# Altium footprint library Other.PcbLib: 7 footprints
Each footprint in its own frame and in the unit in brackets; x right, y up, seen from the top. Pads: shape width x height; smd on the part's side, far side on the other; paste and mask are expansions set on the pad; w line width, h text height; cw(c..) or ccw(c..) is an arc to the next point about the centre after c.
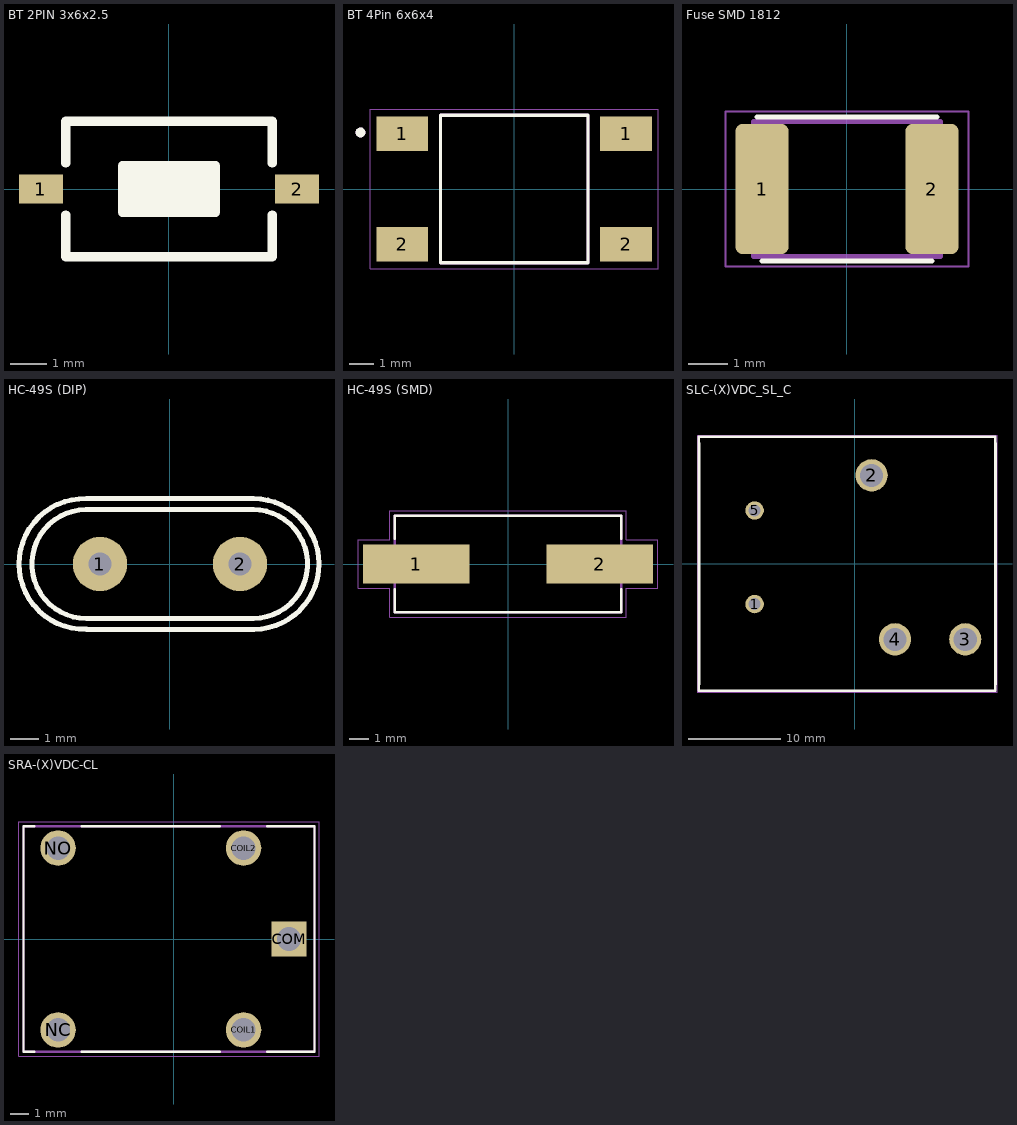
[diagram p0: the footprints below, top view; thin cyan lines are the x and y axes]

## BT 2PIN 3x6x2.5 [mm]
pads (2):
  rect 1.2x0.8 smd: 1(-3.5,0) 2(3.5,0)
Top Overlay:
  rectangle: -1.27,-0.635 1.27,0.635
  lines w0.254: -2.819,-0.711 -2.819,-1.854 2.819,-1.854 2.819,-0.711 ; -2.819,0.711 -2.819,1.854 2.819,1.854 2.819,0.711 ; -1.27,-0.635 -1.27,0.635 1.27,0.635 1.27,-0.635 -1.27,-0.635
3D body "User Library-Button-SMD.step": height 2.5, standoff 0, extent -3.05,-1.85 3.05,1.85

## BT 4Pin 6x6x4 [mm]
pads (4):
  rect 2.1x1.4 smd: 1(-4.55,2.25) 1(4.55,2.25) 2(-4.55,-2.25) 2(4.55,-2.25)
Top Overlay:
  circle w0.2: c-6.25,2.3 r0.1
  lines w0.127: -3,-3 3,-3 3,3 -3,3 -3,-3
Mechanical 13:
  circle w0.2: c-6.25,2.3 r0.1
  lines w0.127: -3,-3 -3,3 3,3 3,-3 -3,-3
Mechanical 15:
  lines w0.05: -5.85,-3.25 -5.85,3.25 5.85,3.25 5.85,-3.25 -5.85,-3.25
3D body "step_temp.STEP": height 4.59, standoff 0, extent -5,-3 5,3

## Fuse SMD 1812 [mm]
pads (2):
  rrect25% 1.34x3.29 smd: 1(-2.15,0) 2(2.15,0)
Top Overlay:
  lines w0.127: -2.28,1.825 2.28,1.825 ; -2.15,-1.825 2.15,-1.825
Mechanical 13:
  lines w0.127: -2.37,-1.71 2.37,-1.71 2.37,1.71 -2.37,1.71 -2.37,-1.71
Mechanical 15:
  lines w0.05: -3.07,-1.96 3.07,-1.96 3.07,1.96 -3.07,1.96 -3.07,-1.96
3D body "step_temp.STEP": height 1.25, standoff 0, extent -2.275,-1.62 2.275,1.62

## HC-49S (DIP) [mm]
pads (2):
  round 1.905 hole 0.8: 1(-2.45,0) 2(2.45,0)
Top Overlay:
  lines w0.178: -2.939,1.905 ccw(c-2.927,0) -2.921,-1.905 2.921,-1.905 ccw(c2.908,0) 2.903,1.905 ; -2.922,-2.283 cw(c-2.998,0.001) -2.921,2.286 2.921,2.286 cw(c2.928,0) 2.943,-2.286 ; -2.921,-2.286 2.921,-2.286 ; -2.921,1.905 2.921,1.905
3D body "SW3dPS-HP49US.STEP": height 3.5, standoff -4, extent -5.675,-2.364 5.675,2.286

## HC-49S (SMD) [mm]
pads (2):
  rect 5.5x2 smd: 1(-4.75,0) 2(4.75,0)
Top Overlay:
  lines w0.127: -5.85,-1.315 -5.85,-2.5 5.85,-2.5 5.85,-1.315 ; -5.85,1.315 -5.85,2.5 5.85,2.5 5.85,1.315
Mechanical 13:
  lines w0.127: -5.85,-2.5 5.85,-2.5 5.85,2.5 -5.85,2.5 -5.85,-2.5
Mechanical 15:
  lines w0.05: -7.75,-1.25 -7.75,1.25 -6.1,1.25 -6.1,2.75 6.1,2.75 6.1,1.25 7.75,1.25 7.75,-1.25 6.1,-1.25 6.1,-2.75 -6.1,-2.75 -6.1,-1.25 -7.75,-1.25
3D body "step_temp.STEP": height 4.5, standoff 0, extent -6.75,-2.5 6.75,2.5

## SLC-(X)VDC_SL_C [mm]
pads (5):
  round 2 hole 1.3: 1(-10.888,-4.363) 5(-10.888,5.797)
  round 3.5 hole 2.5: 2(1.812,9.617) 3(11.972,-8.183) 4(4.352,-8.183)
Top Overlay:
  lines w0.254: -16.888,-13.083 -16.888,13.117 ; 15.292,-13.083 15.292,13.117 ; -16.958,-13.783 15.242,-13.783 15.242,13.817 -16.958,13.817 -16.958,-13.783
Mechanical 15:
  region: -17.025,-13.91 -17.025,-13.885 -17.06,-13.85 -17.11,-13.85 -17.145,-13.885 -17.145,-13.91 -17.145,-13.935 -17.11,-13.97 -17.06,-13.97 -17.025,-13.935
  region: -10.338,5.797 -10.338,5.906 -10.422,6.108 -10.576,6.263 -10.779,6.347 -10.997,6.347 -11.2,6.263 -11.354,6.108 -11.438,5.906 -11.438,5.797 -11.438,5.687 -11.354,5.485 -11.2,5.33 -10.997,5.247 -10.779,5.247 -10.576,5.33 -10.422,5.485 -10.338,5.687
  region: 5.502,-8.183 5.502,-8.032 5.424,-7.739 5.272,-7.477 5.058,-7.263 4.796,-7.111 4.503,-7.033 4.201,-7.033 3.908,-7.111 3.646,-7.263 3.432,-7.477 3.28,-7.739 3.202,-8.032 3.202,-8.183 3.202,-8.335 3.28,-8.627 3.432,-8.889 3.646,-9.103 3.908,-9.255 4.201,-9.333 4.503,-9.333 4.796,-9.255 5.058,-9.103 5.272,-8.889 5.424,-8.627 5.502,-8.335
  region: 13.122,-8.183 13.122,-8.032 13.044,-7.739 12.892,-7.477 12.678,-7.263 12.416,-7.111 12.123,-7.033 11.821,-7.033 11.528,-7.111 11.266,-7.263 11.052,-7.477 10.9,-7.739 10.822,-8.032 10.822,-8.183 10.822,-8.335 10.9,-8.627 11.052,-8.889 11.266,-9.103 11.528,-9.255 11.821,-9.333 12.123,-9.333 12.416,-9.255 12.678,-9.103 12.892,-8.889 13.044,-8.627 13.122,-8.335
  region: 2.962,9.617 2.962,9.768 2.884,10.061 2.732,10.323 2.518,10.537 2.256,10.689 1.963,10.767 1.661,10.767 1.368,10.689 1.106,10.537 0.892,10.323 0.74,10.061 0.662,9.768 0.662,9.617 0.662,9.466 0.74,9.173 0.892,8.911 1.106,8.697 1.368,8.545 1.661,8.467 1.963,8.467 2.256,8.545 2.518,8.697 2.732,8.911 2.884,9.173 2.962,9.465
  region: -10.338,-4.363 -10.338,-4.254 -10.422,-4.052 -10.576,-3.897 -10.779,-3.813 -10.997,-3.813 -11.2,-3.897 -11.354,-4.052 -11.438,-4.254 -11.438,-4.363 -11.438,-4.473 -11.354,-4.675 -11.2,-4.83 -10.997,-4.913 -10.779,-4.913 -10.576,-4.83 -10.422,-4.675 -10.338,-4.473
  lines w0.051: -17.085,-13.91 15.419,-13.91 15.419,13.944 -17.085,13.944 -17.085,-13.91
3D body "User Library-Relay_30A_SLC-xVDS-SL-C.STEP": height 27.49, standoff -3.71, extent -16.989,-13.673 15.211,13.927

## SRA-(X)VDC-CL [mm]
pads (5):
  round 1.95 hole 1.3: COIL1(3.85,-5) COIL2(3.85,5) NC(-6.35,-5) NO(-6.35,5)
  rect 1.95x1.95 / inner round 1.95 / far side rect 1.95x1.95 hole 1.3: COM(6.35,0)
Top Overlay:
  lines w0.127: -7.645,-6.2 -8.25,-6.2 -8.25,6.2 -7.645,6.2 ; -5.055,-6.2 2.555,-6.2 ; -5.055,6.2 2.555,6.2 ; 5.145,-6.2 7.75,-6.2 7.75,6.2 5.145,6.2
Mechanical 13:
  lines w0.127: -8.25,-6.2 7.75,-6.2 7.75,6.2 -8.25,6.2 -8.25,-6.2
Mechanical 15:
  lines w0.05: -8.5,-6.45 -8.5,6.45 8,6.45 8,-6.45 -8.5,-6.45
3D body "Trung_SRA-05VDC-CL--3DModel-STEP-321159.stp": height 14.22, standoff -2.98, extent -8.25,-6.2 7.75,6.2